# Altium schematic symbol library transistor_fet.SchLib: 102 symbols
Pins are listed as number, name and electrical type; pins without a type are passive.

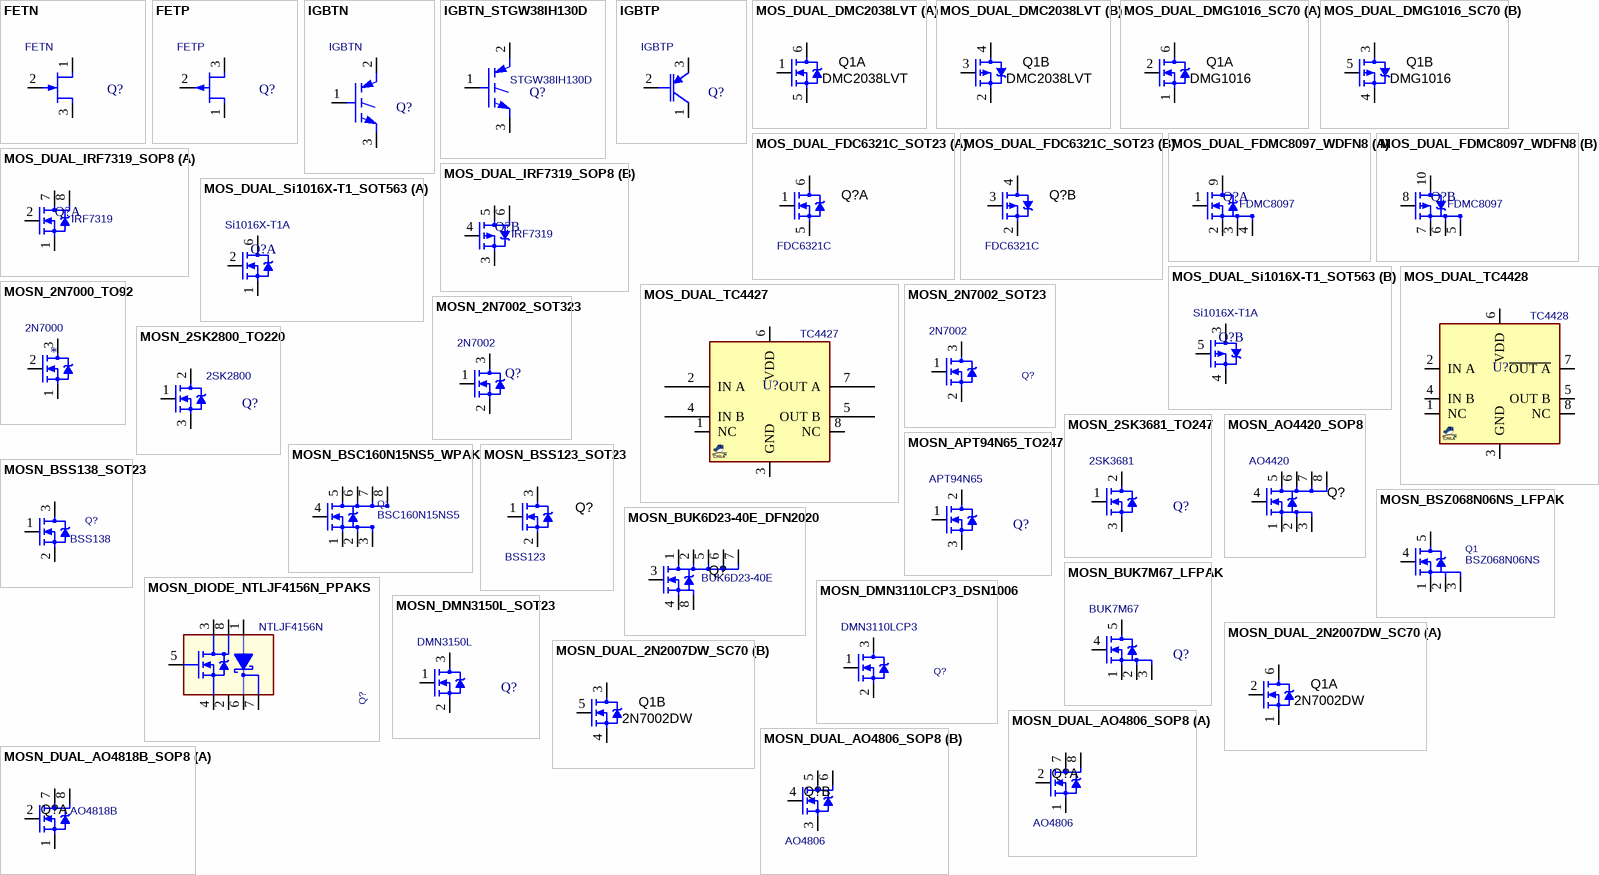
[diagram p0: symbols FETN to MOSN_DUAL_AO4818B_SOP8]

## FETN
designator Q?
N-Channel JFET; ASSEMBLY: ASSEMBLY; VALUE: FETN
footprint TO18_3 (TO18, TO-206AA, TO52, TO46, DIA: 5.5mm)
pins: 1 D, 2 G, 3 S

## FETP
designator Q?
P-Channel JFET; ASSEMBLY: ASSEMBLY; VALUE: FETP
footprint TO18_3 (TO18, TO-206AA, TO52, TO46, DIA: 5.5mm)
pins: 1 D, 2 G, 3 S

## IGBTN
designator Q?
IGBT, N-Ch; ASSEMBLY: ASSEMBLY; VALUE: IGBTN
footprint TO220_3 (TO-220 3 LEAD, TO-262, pitch: 2.54mm  10x4.5mm)
footprint TO220_3B (TO-220 3LEAD, pitch: 2.54mm  10x15mm)
pins: 1 G, 2 C, 3 E

## IGBTN_STGW38IH130D
designator Q?, comment STGW38IH130D
IGBT, N-Ch; DESC: Insulated Gate Bipolar Transistor; MANF: ST; ASSEMBLY: ASSEMBLY; MANF_P#: STGW38IH130D; VALUE: STGW38IH130D
footprint TO247_3 (TO247, TO-247, TO-3P pitch: 5.5mm 16x5mm)
simulation model IRGPC40U (Spice Subcircuit)
pins: 1 G, 2 C, 3 E

## IGBTP
designator Q?
IGBT, P-Ch; ASSEMBLY: ASSEMBLY; VALUE: IGBTP
footprint TO220_3 (TO-220 3 LEAD, TO-262, pitch: 2.54mm  10x4.5mm)
pins: 1 C, 2 G, 3 E

## MOS_DUAL_DMC2038LVT
designator Q1, comment DMC2038LVT
MOSFET Dual Enh N+P 20V 500mW TSOT23-6 SMD; PARAM: 3A, 20V, 500mW, 74 mOhm, -4.5V; MANF_P#: DMC2038LVT-7; MANF: Diodes Inc; ASSEMBLY: ASSEMBLY; Value: DMC2038LVT
footprint SOT23_6 (SOT-23-6, MICRO6, SOT-26, SOT457, SuperSOT6, TSOP-6, HMC313, MO-178AB, MO-193AA, TSOT)
part A pins: 1 G1, 5 S1, 6 D1
part B pins: 2 S2, 3 G2, 4 D2

## MOS_DUAL_DMG1016_SC70
designator Q1, comment DMG1016
MOSFET Dual Enh N+P 20V 330mW SOT363 SMD; PARAM: 20V, 330 mW; MANF_P#: DMG1016UDW-7; PARAM2: 450 mOhm @ 600mA, 4.5V; MANF: Diodes Inc; ASSEMBLY: ASSEMBLY; Value: DMG1016
footprint SOT363_6 (SOT-363, SC-70_6, BFS483, SC-88, MO-203AB, DSO65_6_200X130)
part A pins: 1 S1, 2 G1, 6 D1
part B pins: 3 D2, 4 S2, 5 G2

## MOS_DUAL_FDC6321C_SOT23
designator Q?, comment FDC6321C
MOSFET Dual N+P; MANF: FAIRCHILD; ASSEMBLY: ASSEMBLY; MANF_P#: FDC6321C; VALUE: FDC6321C
footprint SOT23_6 (SOT-23-6, MICRO6, SOT-26, SOT457, SuperSOT6, TSOP-6, HMC313, MO-178AB, MO-193AA, TSOT)
part A pins: 1 G, 5 S, 6 D
part B pins: 2 S2, 3 G2, 4 D2

## MOS_DUAL_FDMC8097_WDFN8
designator Q?, comment FDMC8097
MOSFET, Power, N+P, 2.4A/-0.9A, 150Vdss; MANF_P#: FDMC8097AC; PARAM2: 150Vdss, 0.155/1.2Ohm; PARAM: 2.4A/-0.9A, -55~150oC; MANF: ON/FAIRCHILD; ASSEMBLY: ASSEMBLY; PRICE: 3$; VALUE: FDMC8097
footprint WDFN3030_8D (Power33, WDFN8 3x3, 0.65P 3.0x3.0x0.8mm)
part A pins: 1 G1, 2 S1, 3 S1, 4 S1, 9 D1
part B pins: 5 S2, 6 S2, 7 S2, 8 G2, 10 D2

## MOS_DUAL_IRF7319_SOP8
designator Q?, comment IRF7319
MOSFET, Power, HEXFET, N+P, 5A, 30Vdss, 0.03Rds; MANF_P#: IRF7319PBF, IRF7319TRPBF; PARAM: 5A, -55~150oC; MANF: Infineon/IR; ASSEMBLY: ASSEMBLY; PARAM2: 30Vdss, 0.03Rds; PRICE: 0.9$; VALUE: IRF7319
footprint SO_8
part A pins: 1 S1, 2 G1, 7 D1, 8 D1
part B pins: 3 S2, 4 G2, 5 D2, 6 D2

## MOS_DUAL_Si1016X-T1_SOT563
designator Q?, comment Si1016X-T1A
Complementary N- and P-Channel 20 V (D-S) MOSFET; ASSEMBLY: ASSEMBLY; MANF_P#: Si1016X-T1A; VALUE: Si1016X-T1A
footprint SOT563_6 (SOT-563, 6 LEAD, Body 1.2x1.6mm, Pitch 0.50mm, DSO50_6_160X120)
part A pins: 1 S, 2 G, 6 D
part B pins: 3 D2, 4 S2, 5 G2

## MOS_DUAL_TC4427
designator U?, comment TC4427
power Mosfet Driver, Dual, High-Speed, 1.5A; ASSEMBLY: ASSEMBLY; MANF_P#: TC4427; VALUE: TC4427
footprint SO_8
pins: 1 NC, 2 IN A, 3 GND, 4 IN B, 5 OUT B, 6 VDD, 7 OUT A, 8 NC

## MOS_DUAL_TC4428
designator U?, comment TC4428
power Mosfet Driver, Dual, High-Speed, 1.5A; ASSEMBLY: ASSEMBLY; MANF_P#: TC4428; VALUE: TC4428
footprint SO_8
pins: 1 NC, 2 IN A, 3 GND, 4 IN B, 5 OUT B, 6 VDD, 7 ~{OUT A}, 8 NC

## MOSN_2N7000_TO92
designator *, comment 2N7000
MOSFET, N-CH, 60V, 0.2A, 5OhmRDS; PARAM2: 60VDS, 0.8~3VGSth; PARAM: 0.2A, 5OhmRDS, 60pF, -55~150oC; ASSEMBLY: ASSEMBLY; MANF_P#: 2N7000; PRICE: 400t@PAYA; VALUE: 2N7000
footprint TO92_3 (TO-92)
pins: 1 S, 2 G, 3 D

## MOSN_2N7002_SOT23
designator Q?, comment 2N7002
MOSFET, N-CH, 60V, 0.3A; MANF: NXP; ASSEMBLY: ASSEMBLY; MANF_P#: 2N7002; PARAM2: 60v; PARAM: 0.3A; PRICE: 0.3t@Javan; VALUE: 2N7002
footprint SOT23_3 (SOT-23, Micro3, MO-178, TO-236AB, MO-193C, SuperSOT3, SC-59, DSO190_3_300X150)
pins: 1 GATE, 2 SOURCE, 3 DRAIN

## MOSN_2N7002_SOT323
designator Q?, comment 2N7002
MOSFET, N-CH, 60V, 0.3A, SOT323; MANF_P#: 2N7002BKW,115; PARAM: 60V, 310mA, 275mW; PARAM2: 1.6 Ohm @ 500mA, 10V; MANF: NXP Semiconductors; ASSEMBLY: ASSEMBLY; VALUE: 2N7002
footprint SOT323_3 (SOT323, SC-70/SC70-3L, MO-203(JEDEC))
pins: 1 GATE, 2 SOURCE, 3 DRAIN

## MOSN_2SK2800_TO220
designator Q?, comment 2SK2800
MOSFET, N-CH, 60V, 40A, 15mRDS, 1500pF; PARAM2: 60VDS, 1.5~2.5VGSth; PARAM: 40A, 15mRDS, 1500pF, -55~150oC; MANF: RENESAS; ASSEMBLY: ASSEMBLY; MANF_P#: 2SK2800; PRICE: 2000toman@PAYA; VALUE: 2SK2800
footprint TO220_3 (TO-220 3 LEAD, TO-262, pitch: 2.54mm  10x4.5mm)
pins: 1 G, 2 D, 3 S

## MOSN_2SK3681_TO247
designator Q?, comment 2SK3681
MOSFET N-CH, 600V, 43A, 120mRDS; PARAM2: 600V, 680pFCOSS; ASSEMBLY: ASSEMBLY; MANF_P#: 2SK3681; PARAM: 43A, 120mRDS; PRICE: 20t@PAYA; VALUE: 2SK3681
footprint TO247_3 (TO247, TO-247, TO-3P pitch: 5.5mm 16x5mm, TO-218)
pins: 1 G, 2 D, 3 S

## MOSN_AO4420_SOP8
designator Q?, comment AO4420
MOSFET, N-CH, 30V, 13.7A, SOIC-8; MANF: Alpha & Omega Semiconductor Inc; ASSEMBLY: ASSEMBLY; MANF_P#: AO4420; PARAM2: 30V; PARAM: 13.7A; VALUE: AO4420
footprint SO_8 (SOP-8, 5x3.9mm body 1.27mm pitch, SOT96-1, M08A, S8, SOIC8, VO8, MS-012AA(JEDEC), R-8, 8S2, VOG8)
pins: 1 1,2,3, 2 S, 3 S, 4 G, 5 5,6,7,8, 6 D, 7 D, 8 D

## MOSN_APT94N65_TO247
designator Q?, comment APT94N65
MOSFET N-CH, 650V, 94A, 300mRDS; PARAM2: 650V, 5200pF; PARAM: 94A, 300mRDS, -55~150°C; MANF: MICROSEMI; ASSEMBLY: ASSEMBLY; MANF_P#: APT94N65; PRICE: 70t@PAYA; VALUE: APT94N65
footprint TO247_3 (TO247, TO-247, TO-3P pitch: 5.5mm 16x5mm, TO-218)
pins: 1 G, 2 D, 3 S

## MOSN_BSC160N15NS5_WPAK
designator Q1, comment BSC160N15NS5
MOSFET, N-Ch, 150V, 56A, 16mRDS; PARAM2: 150VDS, 2~4VGSth; PARAM: 56A, 16mRDS, -55~150°C; MANF: Infineon; ASSEMBLY: ASSEMBLY; MANF_P#: BSC160N15NS5; PRICE: 1.1$; VALUE: BSC160N15NS5
footprint WPAK_8S (WPAK, POWERPAK SO-8 1.27mm pitch Single)
pins: 1 S1, 2 S2, 3 S3, 4 G, 5 D, 6 D, 7 D, 8 D

## MOSN_BSS123_SOT23
designator Q?, comment BSS123
MOSFET SMD N-CH 100V 170mA SOT23-3; PARAM: 100V; 170mA; MANF_P#: BSS123-7-F; MANF: Diodes Inc; ASSEMBLY: ASSEMBLY; VALUE: BSS123
footprint SOT23_3 (SOT-23, Micro3, MO-178, TO-236AB, MO-193C, SuperSOT3, SC-59, 1.9mm pitch 3X1.5mm body)
pins: 1 G, 2 S, 3 D

## MOSN_BSS138_SOT23
designator Q?, comment BSS138
MOSFET Nchan 50V 200mA; MANF_P#: BSS138-7-F; MANF: Diodes Inc.; DESC: MOSFET Nchan 50V 200mA; PRICE: 0.18; ASSEMBLY: ASSEMBLY; VALUE: BSS138
footprint SOT23_3 (SOT-23, Micro3, MO-178, TO-236AB, MO-193C, SuperSOT3, SC-59, DSO190_3_300X150)
pins: 1 GATE, 2 SOURCE, 3 DRAIN

## MOSN_BSZ068N06NS_LFPAK
designator Q1, comment BSZ068N06NS
MOSFET, N-Ch, 60V, 40A, 6.8mRDS; PARAM2: 60VDS, 2~4VGSth; PARAM: 40A, 6.8mRDS, -55~150°C; MANF: Infineon; ASSEMBLY: ASSEMBLY; MANF_P#: BSZ068N06NS; PRICE: 1.1$; VALUE: BSZ068N06NS
footprint PG_TSDSON_8 (LFPAK33-5, PG-TSDSON-8, WDFN8, 3.3X3.3X0.9mm, 0.65mm pitch)
pins: 1 S1, 2 S2, 3 S3, 4 G, 5 D

## MOSN_BUK6D23-40E_DFN2020
designator Q?, comment BUK6D23-40E
MOSFET N-CH, 40V, 19A, 23mRDSON, PPAKSC70; PARAM2: 40VDS, 1.3VGSth; PARAM: 19A, 23mRDSON, -55~175°C; MANF: Nexperia; ASSEMBLY: ASSEMBLY; MANF_P#: BUK6D23-40E; PRICE: 0.5$; VALUE: BUK6D23-40E
footprint PPAKSC70_6S (PowerPAK SC-70-6 SINGLE, MicroFET 2X2, DFN2020MD-6, SOT1220, Pitch: 0.65mm 2x2x1.1mm with 2 Thermal pad)
pins: 1 D, 2 D, 3 G, 4 S, 5 D, 6 D, 7 D, 8 S

## MOSN_BUK7M67_LFPAK
designator Q?, comment BUK7M67
MOSFET, N-CH, 0.05RDS, 14A, 60VDS, 2~4VGSth; MANF_P#: BUK7M67-60EX; PARAM2: 60VDS, 2.4~4VGSth; PARAM: 0.15RDS, 14A, -55~175oC; MANF: Nexperia; ASSEMBLY: ASSEMBLY; PRICE: 0.4$; VALUE: BUK7M67
footprint LFPAK33_4 (LFPAK33, 2.6X3.3X0.9mm, 0.65mm pitch)
pins: 1 S, 2 S, 3 S, 4 G, 5 D

## MOSN_DIODE_NTLJF4156N_PPAKS
designator Q?, comment NTLJF4156N
TRAN NMOS PWR 4.6A 30V DIODE SCHOTTKY 2.0A WDFN6; MANF_P#: NTLJF4156NT1G; MANF: ON SEMICONDUCTOR; ASSEMBLY: ASSEMBLY; VALUE: NTLJF4156N
footprint PPAKSC70_6D (PowerPAK SC-70-6, DFN, DRV, PWSON, WDFN6 Pitch: 0.65mm 2x2x1.1mm with 2 Thermal pad)
pins: 1 A, 2 NC, 3 DRAIN1, 4 SOURCE, 5 GATE, 6 K1, 7 K2, 8 DRAIN2

## MOSN_DMN3110LCP3_DSN1006
designator Q?, comment DMN3110LCP3
MOSFET, N-CH, 30V, 3A, 80mRDSON; PARAM2: 30VDS, 0.65~1.1VGSth; PARAM: 3A, 80mRDSON, -55~150°C; MANF: DIODES; ASSEMBLY: ASSEMBLY; MANF_P#: DMN3110LCP3; PRICE: 0.4$; VALUE: DMN3110LCP3
footprint DSN1006_3 (X2-DSN1006-3, 1X0.6X0.35mm)
pins: 1 GATE, 2 SOURCE, 3 DRAIN

## MOSN_DMN3150L_SOT23
designator Q?, comment DMN3150L
MOSFET N-Channel, 3.8A, 30v, 54mOhm; PARAM2: 30vDS; PARAM: 3.8A, 54mOhm; MANF: Diodes; ASSEMBLY: ASSEMBLY; MANF_P#: DMN3150L; VALUE: DMN3150L
footprint SOT23_3 (SOT-23, Micro3, MO-178, TO-236AB, MO-193C, SuperSOT3, SC-59, 1.9mm pitch 3X1.5mm body)
pins: 1 G, 2 S, 3 D

## MOSN_DUAL_2N2007DW_SC70
designator Q1, comment 2N7002DW
MOSFET Dual Enh N-Ch 60V 115mA SOT363 SMD; PARAM: 60V, 115mA, 200 mW; MANF: Fairchild Semiconductor; MANF_P#: 2N7002DW; ASSEMBLY: ASSEMBLY; Value: 2N7002DW
footprint SOT363_6 (SOT-363, SC-70_6, BFS483, SC-88, MO-203AB, DSO65_6_200X130)
part A pins: 1 S2, 2 G2, 6 D2
part B pins: 3 D1, 4 S1, 5 G1

## MOSN_DUAL_AO4806_SOP8
designator Q?, comment AO4806
MOSFET N-Channel DUAL, 20V 9.4A SOIC-8 SMD; PARAM: 2W; 20V; 9.4A; 14 mOhm; MANF: Alpha & Omega Semiconductor Inc; MANF_P#: AO4806; ASSEMBLY: ASSEMBLY; VALUE: AO4806
footprint SO_8 (SOP-8, 5x3.9mm body 1.27mm pitch, SOT96-1, M08A, S8, SOIC8, VO8, MS-012AA(JEDEC), R-8, 8S2, VOG8)
part A pins: 1 S, 2 G, 7 D, 8 D
part B pins: 3 S, 4 G, 5 D, 6 D

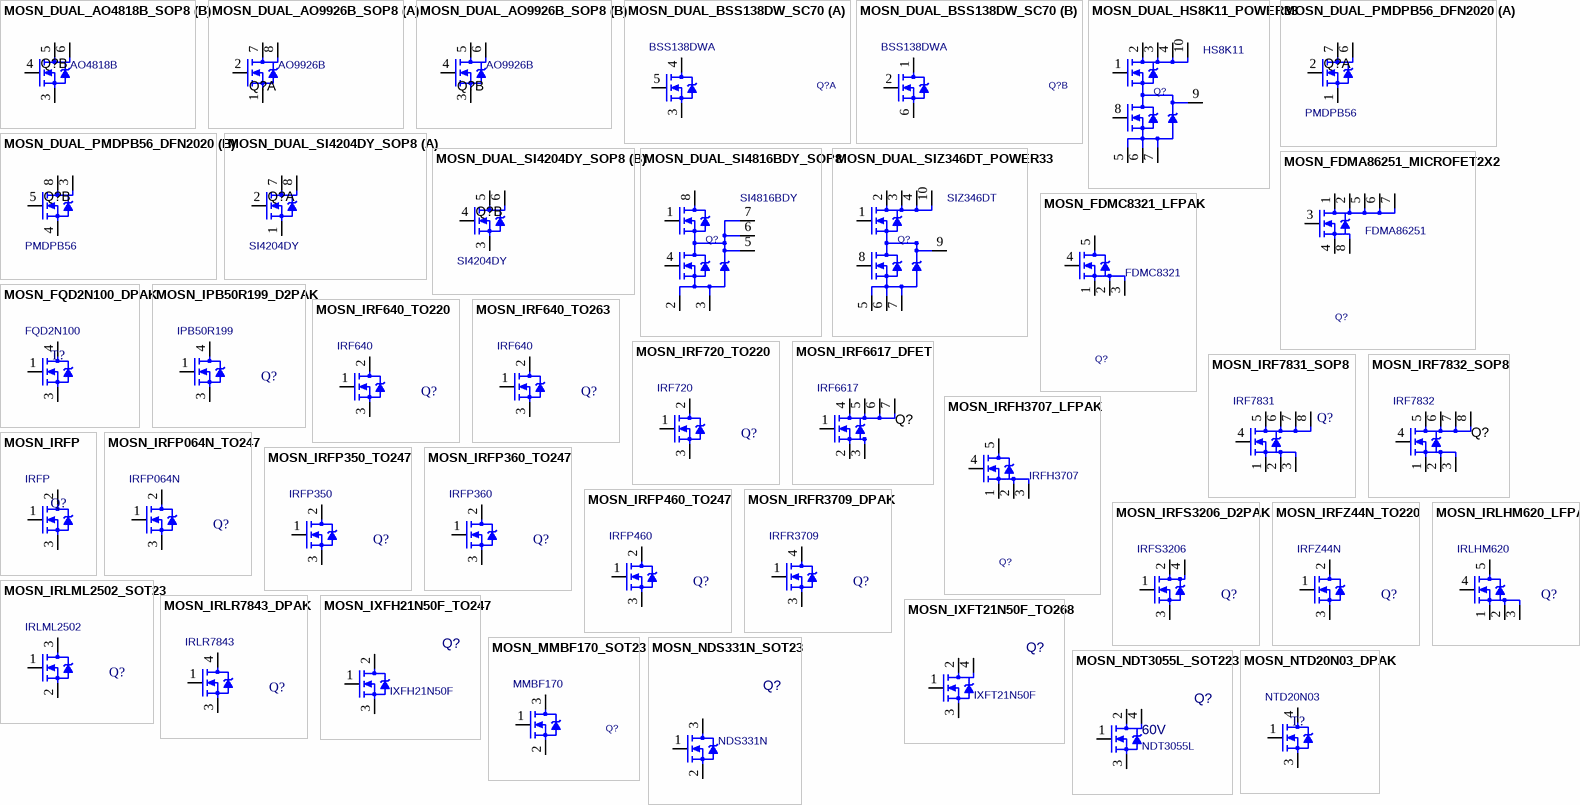
[diagram p1: symbols MOSN_DUAL_AO4818B_SOP8 to MOSN_NTD20N03_DPAK]

## MOSN_DUAL_AO4818B_SOP8
designator Q?, comment AO4818B
MOSFET N-Channel DUAL, 30V 8.5A SOIC-8 SMD; PARAM: 2W; 30V; 8.5A; 16 mOhm; MANF: Alpha & Omega Semiconductor Inc; ASSEMBLY: ASSEMBLY; MANF_P#: AO4818B; VALUE: AO4818B
footprint SO_8 (SOP-8, 5x3.9mm body 1.27mm pitch, SOT96-1, M08A, S8, SOIC8, VO8, MS-012AA(JEDEC), R-8, 8S2, VOG8)
part A pins: 1 S, 2 G, 7 D, 8 D
part B pins: 3 S, 4 G, 5 D, 6 D

## MOSN_DUAL_AO9926B_SOP8
designator Q?, comment AO9926B
MOSFET SMD Dual-Channel 20V 7.6A SOIC-8; PARAM: 2W; 20V; 7.6A; 34 mOhm @ 2.5V; MANF: Alpha & Omega Semiconductor Inc; MANF_P#: AO9926B; ASSEMBLY: ASSEMBLY; VALUE: AO9926B
footprint SO_8 (SOP-8, 5x3.9mm body 1.27mm pitch, SOT96-1, M08A, S8, SOIC8, VO8, MS-012AA(JEDEC), R-8, 8S2, VOG8)
part A pins: 1 S, 2 G, 7 D, 8 D
part B pins: 3 S, 4 G, 5 D, 6 D

## MOSN_DUAL_BSS138DW_SC70
designator Q?, comment BSS138DWA
MANF_P#: BSS138DW-7-F; MANF: Diodes Inc; ASSEMBLY: ASSEMBLY; VALUE: BSS138DWA
footprint SOT363_6 (SOT-363, SC-70_6, BFS483, SC-88, MO-203AB, DSO65_6_200X130)
part A pins: 3 DRAIN1, 4 SOURCE1, 5 GATE1
part B pins: 1 SOURCE2, 2 GATE2, 6 DRAIN2

## MOSN_DUAL_HS8K11_POWER33
designator Q?, comment HS8K11
MOSFET DL N-CH 30V 7/11A; MANF_P#: HS8K11TB; PARAM: 18 mOhm @ 7A; PARAM2: 30V, 2W; MANF: ROHM; ASSEMBLY: ASSEMBLY; PRICE: 0.6$; VALUE: HS8K11
footprint HSML3030_8D (Power Pair33, HSML3030, 0.65P 3.0x3.0x0.8mm)
pins: 1 G1, 2 D1, 3 D1, 4 D1, 5 S2, 6 S2, 7 S2, 8 G2, 9 D2/S1, 10 D1

## MOSN_DUAL_PMDPB56_DFN2020
designator Q?, comment PMDPB56
MOSFET N-Channel DUAL, 30V, 3A; MANF_P#: PMDPB56XNEA; PARAM2: 30V, -55~150°C; PARAM: 0.5W, 3A, 72mOhm; MANF: Nexperia; ASSEMBLY: ASSEMBLY; PRICE: 0.5$; VALUE: PMDPB56
footprint PPAKSC70_6D (PowerPAK SC-70-6, DFN2020D-6, DRV, PWSON, WDFN6 Pitch: 0.65mm 2x2x1.1mm with 2 Thermal pad)
part A pins: 1 S, 2 G, 6 D, 7 D
part B pins: 3 D, 4 S, 5 G, 8 D

## MOSN_DUAL_SI4204DY_SOP8
designator Q?, comment SI4204DY
MOSFET N-Channel DUAL, 20V 20A SOP-8; MANF_P#: SI4204DY-T1-GE3; PARAM: 3W; 20V; 20A; 4 mOhm; MANF: Vishay; ASSEMBLY: ASSEMBLY; PRICE: 2$; VALUE: SI4204DY
footprint SO_8 (SOP-8, 5x3.9mm body 1.27mm pitch, SOT96-1, M08A, S8, SOIC8, VO8, MS-012AA(JEDEC), R-8, 8S2, VOG8)
part A pins: 1 S, 2 G, 7 D, 8 D
part B pins: 3 S, 4 G, 5 D, 6 D

## MOSN_DUAL_SI4816BDY_SOP8
designator Q?, comment SI4816BDY
MOSFET DL N-CH 30V 6.8A 8-SOIC; MANF_P#: SI4816BDY-T1-GE3; PARAM: 18.5 mOhm @ 6.8A, 10V; PARAM2: 30V, 5.8A, 1W; MANF: Vishay/Siliconix; ASSEMBLY: ASSEMBLY; VALUE: SI4816BDY
footprint SO_8 (SOP-8, 5x3.9mm body 1.27mm pitch, SOT96-1, M08A, S8, SOIC8, VO8, MS-012AA(JEDEC), R-8, 8S2, VOG8)
pins: 1 G1, 2 A/S2_1, 3 A/S2_2, 4 G2, 5 D2/S1_1, 6 D2/S1_2, 7 D2/S1_3, 8 D1

## MOSN_DUAL_SIZ346DT_POWER33
designator Q?, comment SIZ346DT
MOSFET DL N-CH 30V 17/30A; MANF_P#: SIZ346DT-T1-GE3; PARAM: 28/11 mOhm @ 17/30A; PARAM2: 30V, 2W; MANF: Vishay/Siliconix; ASSEMBLY: ASSEMBLY; PRICE: 0.7$; VALUE: SIZ346DT
footprint HSML3030_8D (Power Pair33, HSML3030, 0.65P 3.0x3.0x0.8mm)
pins: 1 G1, 2 D1, 3 D1, 4 D1, 5 S2, 6 S2, 7 S2, 8 G2, 9 D2/S1, 10 D1

## MOSN_FDMA86251_MICROFET2X2
designator Q?, comment FDMA86251
MOSFET, N-Ch, 150V, 2.4A, 175mRDS; PARAM2: 150VDS, 4nC Qg, 2~4VGSth; PARAM: 2.4A, 175mRDS, 24pF COss, -55~150oC; MANF: ON/FAIRCHILD; ASSEMBLY: ASSEMBLY; MANF_P#: FDMA86251; PRICE: 1$; VALUE: FDMA86251
footprint UFET2020_6D1 (MicroFET-6 2x2, 2x2mm, 0.65mm pitch, Dual thermal Pad)
pins: 1 D1, 2 D2, 3 G, 4 S1, 5 D3, 6 D4, 7 D5, 8 S2

## MOSN_FDMC8321_LFPAK
designator Q?, comment FDMC8321
MOSFET, N-Ch, 40V, 49A, 2.5mRDS; MANF_P#: FDMC8321L; PARAM2: 40VDS, 21nC Qg, 1~3VGSth; PARAM: 49A, 2.5mRDS, 1000pF COss, -55~150oC; MANF: ON/FAIRCHILD; ASSEMBLY: ASSEMBLY; PRICE: 1.7$; VALUE: FDMC8321
footprint LFPAK33_4 (LFPAK33-5, WDFN8, 3.3X3.3X0.9mm, 0.65mm pitch)
pins: 1 S1, 2 S2, 3 S3, 4 G, 5 D

## MOSN_FQD2N100_DPAK
designator T?, comment FQD2N100
MOSFET, N-CH, 1000V, 1.6A, 9RDS, 3~5VGSth; MANF_P#: FQD2N100TM; PARAM2: 1000VDS, 3~5VGSth; PARAM: 1.6A, 9mRDS, Cin400pF, -55~150°C; MANF: ON; ASSEMBLY: ASSEMBLY; PRICE: -; VALUE: FQD2N100
footprint DPAK_3 (D-PAK (TO-252), 3-Pads, Body 6.2x6.7mm)
pins: 1 G, 3 S, 4 D

## MOSN_IPB50R199_D2PAK
designator Q?, comment IPB50R199
MOSFET, N-CH, 550V, 17A, 200mRDS, 34nC; MANF_P#: IPB50R199CP; PARAM2: 550VDS; PARAM: 17A, 200mRDS, 34nC, -55~150oC; MANF: Infineon; ASSEMBLY: ASSEMBLY; PRICE: -; VALUE: IPB50R199
footprint D2PAK_2 (D2PAK-3, FMG500_3_S1000)
pins: 1 G, 3 S, 4 D

## MOSN_IRF640_TO220
designator Q?, comment IRF640
MOSFET, N-CH, 0.15RDS, 18A, 300VDS, 2~4VGSth; PARAM2: 200VDS, 2~4VGSth; PARAM: 0.15RDS, 18A, -55~175oC; MANF: VISHAY, ON; ASSEMBLY: ASSEMBLY; MANF_P#: IRF640; PRICE: 0.9$, 1500toman@PAYA; VALUE: IRF640
footprint TO220_3 (TO-220 3 LEAD, TO-262, pitch: 2.54mm  10x4.5mm)
pins: 1 G, 2 D, 3 S

## MOSN_IRF640_TO263
designator Q?, comment IRF640
MOSFET, N-CH, 0.15RDS, 18A, 300VDS, 2~4VGSth; MANF_P#: IRF640S; PARAM2: 200VDS, 2~4VGSth; PARAM: 0.15RDS, 18A, -55~175oC; MANF: VISHAY, ON; ASSEMBLY: ASSEMBLY; PRICE: 0.9$, 1500toman@PAYA; VALUE: IRF640
footprint D2PAK_3 (D2-PAK, 4-Pads, Body 7.6x8.6mm)
pins: 1 G, 2 D, 3 S

## MOSN_IRF720_TO220
designator Q?, comment IRF720
MOSFET, N-CH, 1.8RDS, 3.3A, 400VDS, 2~4VGSth; MANF: VISHAY, ON; ASSEMBLY: ASSEMBLY; MANF_P#: IRF720; PARAM2: 400VDS, 2~4VGSth; PARAM: 1.8RDS, 3.3A; VALUE: IRF720
footprint TO220_3 (TO-220 3 LEAD, TO-262, pitch: 2.54mm  10x4.5mm)
pins: 1 G, 2 D, 3 S

## MOSN_IRF6617_DFET
designator Q?, comment IRF6617
MOSFET, N-CH, 30V, 55A, 8mRDS, 1300pF; PARAM2: 30VDS, 1.3~2.3VGSth; PARAM: 55A, 8mRDS, 1300pF, -40~150oC; MANF: IRF; ASSEMBLY: ASSEMBLY; MANF_P#: IRF6617; PRICE: 1000t@PAYA; VALUE: IRF6617
footprint DFET_S (DirectFET, Small size can, ST, SC, 5x4x0.7mm)
pins: 1 G, 2 S, 3 S, 4 D, 5 5,6,7,8, 6 D, 7 D

## MOSN_IRF7831_SOP8
designator Q?, comment IRF7831
MOSFET, N-CH, 30V, 21A, 3.6mOhm, 6200pF, HEXFET; ASSEMBLY: ASSEMBLY; MANF_P#: IRF7831; PARAM2: 30V; PARAM: 21A, 3.6mOhm, 6200pF; VALUE: IRF7831
footprint SO_8 (SOP-8, 5x3.9mm body 1.27mm pitch, SOT96-1, M08A, S8, SOIC8, VO8, MS-012AA(JEDEC), R-8, 8S2, VOG8)
pins: 1 S, 2 S, 3 S, 4 G, 5 D, 6 D, 7 D, 8 D

## MOSN_IRF7832_SOP8
designator Q?, comment IRF7832
MOSFET, N-CH, 30V, 20A, 4mOhm, 4300pF; PARAM: 20A, 4mOhm, 4300pF, -55~155oC; MANF: IRF; ASSEMBLY: ASSEMBLY; MANF_P#: IRF7832; PARAM2: 30V; PRICE: 1500t@PAYA; VALUE: IRF7832
footprint SO_8 (SOP-8, 5x3.9mm body 1.27mm pitch, SOT96-1, M08A, S8, SOIC8, VO8, MS-012AA(JEDEC), R-8, 8S2, VOG8)
pins: 1 1,2,3, 2 S, 3 S, 4 G, 5 5,6,7,8, 6 D, 7 D, 8 D

## MOSN_IRFH3707_LFPAK
designator Q?, comment IRFH3707
MOSFET, N-Ch, 30V, 12A, 12.4mRDS; MANF_P#: IRFH3707TRPBF; PARAM2: 30VDS, 1.3~2.3VGSth; PARAM: 12A, 12.4mRDS, 755pF, -55~150oC; MANF: IRF; ASSEMBLY: ASSEMBLY; PRICE: 0.5$; VALUE: IRFH3707
footprint LFPAK33_4 (LFPAK33-5, WDFN8, 3.3X3.3X0.9mm, 0.65mm pitch)
pins: 1 S1, 2 S2, 3 S3, 4 G, 5 D

## MOSN_IRFP
designator Q?, comment IRFP
ASSEMBLY: ASSEMBLY; MANF_P#: IRFP; VALUE: IRFP
footprint TO247_3 (TO247, TO-247, TO-3P pitch: 5.5mm 16x5mm, TO-218)
pins: 1 G, 2 D, 3 S

## MOSN_IRFP064N_TO247
designator Q?, comment IRFP064N
HEXFET Power MOSFET; ASSEMBLY: ASSEMBLY; MANF_P#: IRFP064N; VALUE: IRFP064N
footprint TO247_3 (TO247, TO-247, TO-3P pitch: 5.5mm 16x5mm, TO-218)
pins: 1 G, 2 D, 3 S

## MOSN_IRFP350_TO247
designator Q?, comment IRFP350
MOSFET N-CH, 400V, 16A, 300mRDS; PARAM2: 400V, 400pF; ASSEMBLY: ASSEMBLY; MANF_P#: IRFP350; PARAM: 16A, 300mRDS; PRICE: 14t@PAYA; VALUE: IRFP350
footprint TO247_3 (TO247, TO-247, TO-3P pitch: 5.5mm 16x5mm, TO-218)
pins: 1 G, 2 D, 3 S

## MOSN_IRFP360_TO247
designator Q?, comment IRFP360
MOSFET N-CH, 400V, 23A, 200mRDS; PARAM2: 400V, 1100pF; ASSEMBLY: ASSEMBLY; MANF_P#: IRFP360; PARAM: 23A, 200mRDS; PRICE: 22t@PAYA; VALUE: IRFP360
footprint TO247_3 (TO247, TO-247, TO-3P pitch: 5.5mm 16x5mm, TO-218)
pins: 1 G, 2 D, 3 S

## MOSN_IRFP460_TO247
designator Q?, comment IRFP460
MOSFET N-CH, 500V, 20A, 870mRDS; PARAM2: 500V, 870pF; PARAM: 20A, 270mRDS; ASSEMBLY: ASSEMBLY; MANF_P#: IRFP460; PRICE: 20t@PAYA; VALUE: IRFP460
footprint TO247_3 (TO247, TO-247, TO-3P pitch: 5.5mm 16x5mm, TO-218)
pins: 1 G, 2 D, 3 S

## MOSN_IRFR3709_DPAK
designator Q?, comment IRFR3709
MOSFET, N-CH, 30V, 86A, 6.5mRDS, 2300pF; DESC: HEXFET Power MOSFET; MANF_P#: IRFR3709Z; PARAM2: 30VDS, 1.3~2.2VGSth; PARAM: 86A, 6.5mRDS, 2300pF, -55~175oC; ASSEMBLY: ASSEMBLY; PRICE: 1500t@PAYA; VALUE: IRFR3709
footprint DPAK_3 (D-PAK (TO-252), 3-Pads, Body 6.2x6.7mm)
pins: 1 G, 3 S, 4 D

## MOSN_IRFS3206_D2PAK
designator Q?, comment IRFS3206
HEXFET Power MOSFET; ASSEMBLY: ASSEMBLY; MANF_P#: IRFS3206; VALUE: IRFS3206
footprint D2PAK_3 (D2-PAK, 4-Pads, Body 7.6x8.6mm)
pins: 1 G, 2 D, 3 S, 4 D

## MOSN_IRFZ44N_TO220
designator Q?, comment IRFZ44N
HEXFET Power MOSFET; ASSEMBLY: ASSEMBLY; MANF_P#: IRFZ44N; VALUE: IRFZ44N
footprint TO220_3 (TO-220 3 LEAD, TO-262, pitch: 2.54mm  10x4.5mm)
pins: 1 G, 2 D, 3 S

## MOSN_IRLHM620_LFPAK
designator Q?, comment IRLHM620
MOSFET, N-CH, 0.002RDS, 10A, 20VDS, 2~4VGSth; PARAM2: 20VDS, 2.4~4VGSth; PARAM: 0.002RDS, 40A, -55~175oC; MANF: I&R; ASSEMBLY: ASSEMBLY; MANF_P#: IRLHM620; PRICE: 0.4$; VALUE: IRLHM620
footprint LFPAK33_4 (LFPAK33, 2.6X3.3X0.9mm, 0.65mm pitch)
pins: 1 S, 2 S, 3 S, 4 G, 5 D

## MOSN_IRLML2502_SOT23
designator Q?, comment IRLML2502
N-Channel Enhancement Mode MOSFET; ASSEMBLY: ASSEMBLY; MANF_P#: IRLML2502; VALUE: IRLML2502
footprint SOT23_3 (SOT-23, Micro3, MO-178, TO-236AB, MO-193C, SuperSOT3, SC-59, 1.9mm pitch 3X1.5mm body)
pins: 1 G, 2 S, 3 D

## MOSN_IRLR7843_DPAK
designator Q?, comment IRLR7843
HEXFET Power MOSFET; ASSEMBLY: ASSEMBLY; MANF_P#: IRLR7843; VALUE: IRLR7843
footprint DPAK_3 (D-PAK (TO-252), 3-Pads, Body 6.2x6.7mm)
pins: 1 G, 3 S, 4 D

## MOSN_IXFH21N50F_TO247
designator Q?, comment IXFH21N50F
MOSFET N-CH, HiPerRF, 500V, 21A, 250mOhm, 250ns, 300W; DESC: DESCRIPTION; PARAM2: 300W, 250ns; MANF: IXYS; PRICE: 0.228; PARAM: 500V, 21A, 250mOhm; ASSEMBLY: ASSEMBLY; MANF_P#: IXFH21N50F; VALUE: IXFH21N50F
footprint TO247_3 (TO247, TO-247, TO-3P pitch: 5.5mm 16x5mm)
pins: 1 GATE, 2 DRAIN, 3 SOURCE

## MOSN_IXFT21N50F_TO268
designator Q?, comment IXFT21N50F
MOSFET N-CH, HiPerRF, 500V, 21A, 250mOhm, 250ns, 300W; DESC: DESCRIPTION; PARAM2: 300W, 250ns; MANF: IXYS; PRICE: 0.228; PARAM: 500V, 21A, 250mOhm; ASSEMBLY: ASSEMBLY; MANF_P#: IXFT21N50F; VALUE: IXFT21N50F
footprint D3PAK_3 (D3-PAK, 4-Pads, TO-268AA)
pins: 1 GATE, 2 DRAIN, 3 SOURCE, 4 DT

## MOSN_MMBF170_SOT23
designator Q?, comment MMBF170
MOSFET, N-CH, 60V, 0.5A,; PARAM2: 60VDS, 0.8~3VGSth; PARAM: 0.5A, -55~150oC; MANF: DIODES; ASSEMBLY: ASSEMBLY; MANF_P#: MMBF170; VALUE: MMBF170
footprint SOT23_3 (SOT-23, Micro3, MO-178, TO-236AB, MO-193C, SuperSOT3, SC-59, DSO190_3_300X150)
pins: 1 GATE, 2 SOURCE, 3 DRAIN

## MOSN_NDS331N_SOT23
designator Q?, comment NDS331N
MOSFET N-CH 20V 1.3A 3-SSOT; DESC: DESCRIPTION; PARAM2: 460MW; MANF: Fairchild; PRICE: 0.072; PARAM: 20V; ASSEMBLY: ASSEMBLY; MANF_P#: NDS331N; VALUE: NDS331N
footprint SOT23_3 (Footprint not found)
pins: 1 GATE, 2 SOURCE, 3 DRAIN

## MOSN_NDT3055L_SOT223
designator Q?, comment PARAM: 60V  (hidden comment: NDT3055L)
MOSFET N-CH 60V 1.3A; DESC: DESCRIPTION; PARAM2: 1.3W; MANF: Fairchild; PRICE: 0.228; ASSEMBLY: ASSEMBLY; MANF_P#: NDT3055L; VALUE: NDT3055L
footprint SOT223_4 (SOT223, 4-Leads, Body 6.5x3.5mm, Pitch 2.30mm)
pins: 1 GATE, 2 DRAIN, 3 SOURCE, 4 DT

## MOSN_NTD20N03_DPAK
designator T?, comment NTD20N03
MOSFET, N-CH, 30V, 20A, 27mRDS, 1~2VGSth; MANF_P#: NTD20N03L27T4G; PARAM2: 30VDS, 1~2VGSth; PARAM: 20A, 27mRDS, Cin1000pF, -55~150oC; MANF: ON; ASSEMBLY: ASSEMBLY; PRICE: 0.9$; VALUE: NTD20N03
footprint DPAK_3 (D-PAK (TO-252), 3-Pads, Body 6.2x6.7mm)
pins: 1 G, 3 S, 4 D

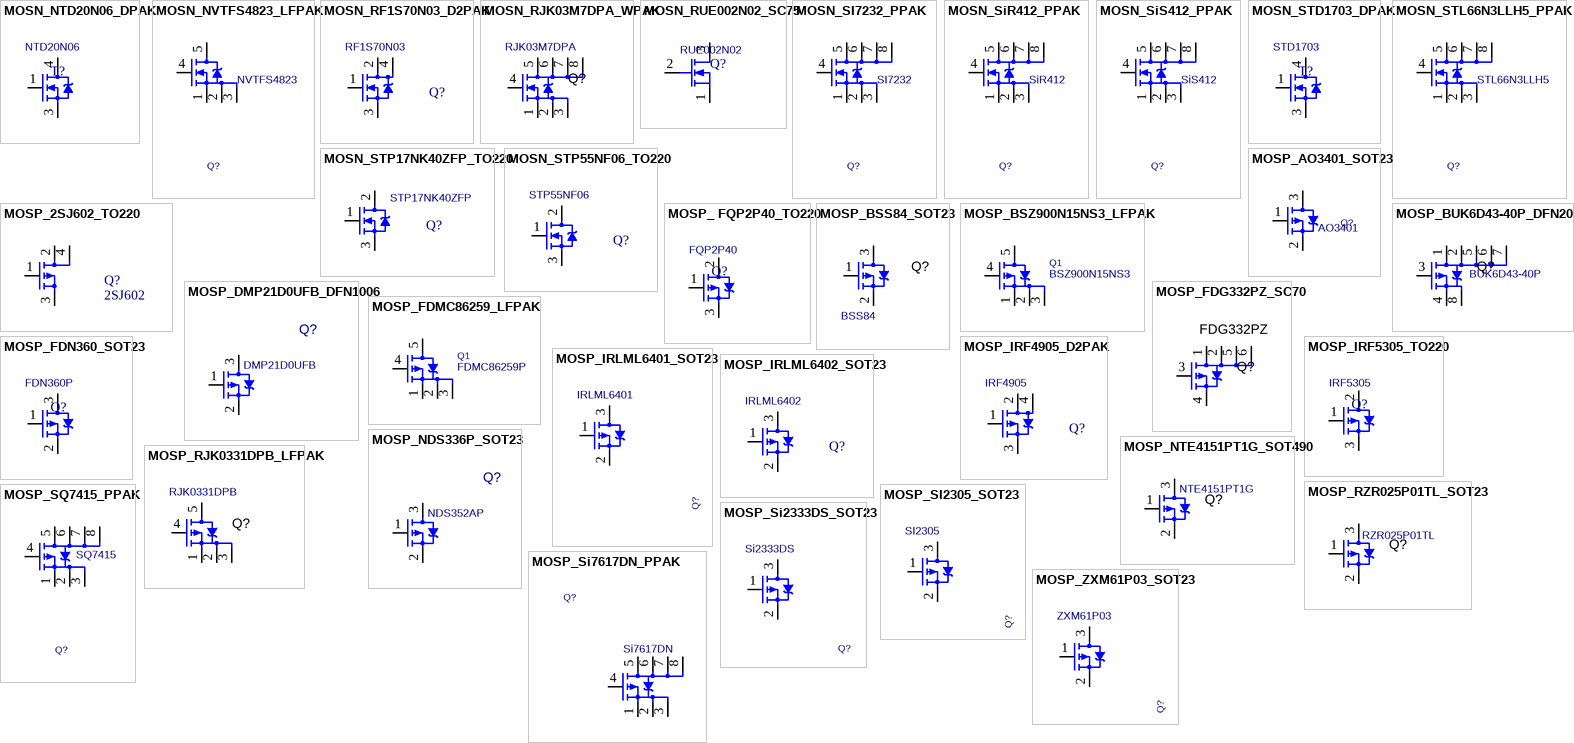
[diagram p2: symbols MOSN_NTD20N06_DPAK to MOSP_ZXM61P03_SOT23]

## MOSN_NTD20N06_DPAK
designator T?, comment NTD20N06
MOSFET, N-CH, 60V, 20A, 39mRDS, 1~2VGSth; MANF_P#: NTD20N06L; PARAM2: 60VDS, 1~2VGSth; PARAM: 20A, 39mRDS, Cin700pF, -55~150oC; MANF: ON; ASSEMBLY: ASSEMBLY; PRICE: 0.9$; VALUE: NTD20N06
footprint DPAK_3 (D-PAK (TO-252), 3-Pads, Body 6.2x6.7mm)
pins: 1 G, 3 S, 4 D

## MOSN_NVTFS4823_LFPAK
designator Q?, comment NVTFS4823
MOSFET, N-Ch, 30V, 30A, 10.5mRDS; MANF_P#: NVTFS4823NWFTAG; PARAM2: 30VDS, 1.5~2.5VGSth; PARAM: 30A, 10.5mRDS, 750pF, -55~175oC; MANF: ON; ASSEMBLY: ASSEMBLY; PRICE: 0.8$; VALUE: NVTFS4823
footprint LFPAK33_4 (LFPAK33-5, WDFN8, 3.3X3.3X0.9mm, 0.65mm pitch)
pins: 1 S1, 2 S2, 3 S3, 4 G, 5 D

## MOSN_RF1S70N03_D2PAK
designator Q?, comment RF1S70N03
MOSFET, N-CH, 30V, 70A, 10mRDS, 3300pF; MANF_P#: RF1S70N03SM9; PARAM2: 30VDS, 2~4VGSth; PARAM: 70A, 10mRDS, 3300pF, -55~175oC; MANF: HARRIS; ASSEMBLY: ASSEMBLY; PRICE: 1500t@PAYA; VALUE: RF1S70N03
footprint D2PAK_3 (D2-PAK, 4-Pads, Body 7.6x8.6mm)
pins: 1 G, 2 D, 3 S, 4 D

## MOSN_RJK03M7DPA_WPAK
designator Q?, comment RJK03M7DPA
MOSFET N-Channel Power Switching 30V 30A WPAK SMD; PARAM: 30V; 30A; MANF: Renesas; ASSEMBLY: ASSEMBLY; MANF_P#: RJK03M7DPA; VALUE: RJK03M7DPA
footprint WPAK_8S (WPAK, POWERPAK SO-8 1.27mm pitch Single)
pins: 1 S, 2 S, 3 S, 4 G, 5 D, 6 D, 7 D, 8 D

## MOSN_RUE002N02_SC75
designator Q?, comment RUE002N02
MOSFET, N-CH; ASSEMBLY: ASSEMBLY; MANF_P#: RUE002N02; VALUE: RUE002N02
footprint SOT113_3 (SOT-113, BAT64, SC-75, SOT-416, SOT523, DSO90_3_140X80)
pins: 1 S, 2 G, 3 D

## MOSN_SI7232_PPAK
designator Q?, comment SI7232
MOSFET N-Ch, 20V, 25A, 16mRDS, PowerPAK 1212-8; MANF_P#: SI7232DN-T1-GE3; PARAM2: 20VDS, 0.4~1VGSth; PARAM: 25A, 16mRDS, 21nC, -55~150oC; MANF: VISHAY; ASSEMBLY: ASSEMBLY; PRICE: 0.6$; VALUE: SI7232
footprint PPAK1212_8S (PowerPAK 1212-8(vishay) pitch: 0.65mm 3.3x3.3x1.1mm)
pins: 1 S1, 2 S2, 3 S3, 4 G, 5 D, 6 D, 7 D, 8 D

## MOSN_SiR412_PPAK
designator Q?, comment SiR412
MOSFET N-Ch, 25V, 20A, 12mRDS, PowerPAK 1212-8; MANF_P#: SiR412DP; PARAM2: 25VDS, 1.2~2.5VGSth; PARAM: 20A, 12mRDS, 600pF, -55~150oC; MANF: VISHAY; ASSEMBLY: ASSEMBLY; PRICE: 0.9$; VALUE: SiR412
footprint PPAK1212_8S (PowerPAK 1212-8(vishay) pitch: 0.65mm 3.3x3.3x1.1mm)
pins: 1 S1, 2 S2, 3 S3, 4 G, 5 D, 6 D, 7 D, 8 D

## MOSN_SiS412_PPAK
designator Q?, comment SiS412
MOSFET N-Ch, 30V, 12A, 30mRDS, PowerPAK 1212-8; MANF_P#: SIS412DN-T1-GE3; PARAM2: 30VDS, 1~2.5VGSth; PARAM: 12A, 30mRDS, 435pF, -55~150oC; MANF: VISHAY; ASSEMBLY: ASSEMBLY; PRICE: 0.6$; VALUE: SiS412
footprint PPAK1212_8S (PowerPAK 1212-8(vishay) pitch: 0.65mm 3.3x3.3x1.1mm)
pins: 1 S1, 2 S2, 3 S3, 4 G, 5 D, 6 D, 7 D, 8 D

## MOSN_STD1703_DPAK
designator T?, comment STD1703
MOSFET, N-CH, 30V, 17A, 38mRDS, 1VGSth; MANF_P#: STD1703L; PARAM2: 30VDS, 1VGSth; PARAM: 17A, 38mRDS, Cin330pF, -65~175oC; MANF: ST; ASSEMBLY: ASSEMBLY; PRICE: 1500t@PAYA; VALUE: STD1703
footprint DPAK_3 (D-PAK (TO-252), 3-Pads, Body 6.2x6.7mm)
pins: 1 G, 3 S, 4 D

## MOSN_STL66N3LLH5_PPAK
designator Q?, comment STL66N3LLH5
MOSFET N-Ch, 30V, 80A, 4.5mRDS, PowerPAK 1212-8; PARAM2: 30VDS, 1~3VGSth; PARAM: 80A, 4.5mRDS, 1500pF, -55~175oC; MANF: ST; ASSEMBLY: ASSEMBLY; MANF_P#: STL66N3LLH5; PRICE: 1$; VALUE: STL66N3LLH5
footprint LFPAK33_4 (LFPAK33-5, WDFN8, 3.3X3.3X0.9mm, 0.65mm pitch)
pins: 1 S1, 2 S2, 3 S3, 4 G, 5 D, 6 D, 7 D, 8 D

## MOSN_STP17NK40ZFP_TO220
designator Q?, comment STP17NK40ZFP
MOSFET, N-CH, 400V, 15A, 230mRDS, 270pF; PARAM2: 400VDS, 3~4.5VGSth; PARAM: 15A, 270mRDS, 270pF, -55~150oC; MANF: ST; ASSEMBLY: ASSEMBLY; MANF_P#: STP17NK40ZFP; PRICE: 7t@PAYA; VALUE: STP17NK40ZFP
footprint TO220_3 (TO-220 3 LEAD, TO-262, pitch: 2.54mm  10x4.5mm)
pins: 1 G, 2 D, 3 S

## MOSN_STP55NF06_TO220
designator Q?, comment STP55NF06
MOSFET, N-CH, 60V, 50A, 15mRDS, 2~4VGSth; PARAM2: 60VDS, 2~4VGSth; PARAM: 0.015RDS, 50A, 1300pF, -55~175oC; MANF: ST; ASSEMBLY: ASSEMBLY; MANF_P#: STP55NF06; PRICE: 1500toman@PAYA; VALUE: STP55NF06
footprint TO220_3 (TO-220 3 LEAD, TO-262, pitch: 2.54mm  10x4.5mm)
pins: 1 G, 2 D, 3 S

## MOSP_2SJ602_TO220
designator Q?, comment 2SJ602
P-Channel MOSFET; Value: 2SJ602; ASSEMBLY: ASSEMBLY; MANF_P#: 2SJ602
footprint TO220_3 (TO-220 3 LEAD, TO-262, pitch: 2.54mm  10x4.5mm)
simulation model PMOS (MOSFET-P)
pins: 1 G, 2 D, 3 S, 4 D

## MOSP_ FQP2P40_TO220
designator Q?, comment FQP2P40
MOSFET P-CHANNEL, 400V, -2A, 6.5Ohm, Vth-4.0; MANF_P#: FQP2P40-F080; PARAM2: -400V; PARAM: -2A, -55~150°C; MANF: ON/FAIRCHILD; ASSEMBLY: ASSEMBLY; PRICE: 1$; VALUE: FQP2P40
footprint TO220_3 (TO-220 3 LEAD, TO-262, pitch: 2.54mm  10x4.5mm)
pins: 1 G, 2 D, 3 S

## MOSP_AO3401_SOT23
designator Q?, comment AO3401
MOSFET P-CH AO3401 SMD SOT-23 3P; PARAM: 4.2A/30V; MANF: ALPHA & OMEGA; ASSEMBLY: ASSEMBLY; MANF_P#: AO3401; VALUE: AO3401
footprint SOT23_3 (SOT-23, Micro3, MO-178, TO-236AB, MO-193C, SuperSOT3, SC-59, DSO190_3_300X150)
pins: 1 G, 2 S, 3 D

## MOSP_BSS84_SOT23
designator Q?, comment BSS84
MOSFET SMD P-CH 50V 130mA SOT23-3; PARAM: 50V; 130mA, 360mW; PARAM2: 10 Ohm @ 100mA, 5V; MANF: Fairchild Semiconductor; MANF_P#: BSS84; ASSEMBLY: ASSEMBLY; VALUE: BSS84
footprint SOT23_3 (SOT-23, Micro3, MO-178, TO-236AB, MO-193C, SuperSOT3, SC-59, DSO190_3_300X150)
pins: 1 G, 2 S, 3 D

## MOSP_BSZ900N15NS3_LFPAK
designator Q1, comment BSZ900N15NS3
MOSFET, N-Ch, 150V, 13A, 90mRDS; PARAM2: 150VDS, 2~4VGSth; PARAM: 13A, 90mRDS, -55~150°C; MANF: Infineon; ASSEMBLY: ASSEMBLY; MANF_P#: BSZ900N15NS3; PRICE: 1.1$; VALUE: BSZ900N15NS3
footprint PG_TSDSON_8 (LFPAK33-5, PG-TSDSON-8, WDFN8, 3.3X3.3X0.9mm, 0.65mm pitch)
pins: 1 S1, 2 S2, 3 S3, 4 G, 5 D

## MOSP_BUK6D43-40P_DFN2020
designator Q?, comment BUK6D43-40P
MOSFET N-CH, 40V, 14A, 43mRDSON, PPAKSC70; MANF_P#: BUK6D43-40PX; PARAM2: 40VDS, 2.7VGSth; PARAM: 14A, 43mRDSON, -55~175°C; MANF: Nexperia; ASSEMBLY: ASSEMBLY; PRICE: 0.5$; VALUE: BUK6D43-40P
footprint PPAKSC70_6S (PowerPAK SC-70-6 SINGLE, MicroFET 2X2, DFN2020MD-6, SOT1220, Pitch: 0.65mm 2x2x1.1mm with 2 Thermal pad)
pins: 1 D, 2 D, 3 G, 4 S, 5 D, 6 D, 7 D, 8 S

## MOSP_DMP21D0UFB_DFN1006
designator Q?, comment DMP21D0UFB
MOSFET P-CH 20V 0.7A SSOT3; DESC: DESCRIPTION; DIST#: MOUSER; PARAM: 0.7A, 700mRDSON, -55~150°C; MANF_P#: DMP21D0UFB-7B; PARAM2: 20V, 0.5W; MANF: Diodes; PRICE: 0.3$; ASSEMBLY: ASSEMBLY; VALUE: DMP21D0UFB
footprint DSN1006_3 (X2-DSN1006-3, -DFN1006, 1X0.6X0.35mm)
pins: 1 GATE, 2 DRAIN, 3 SOURCE

## MOSP_FDG332PZ_SC70
designator Q?, comment FDG332PZ
MOSFET SMD P-CH 20V 2.6A SC70-6; PARAM2: 95 mOhm @ 2.6A, 4.5V; PARAM: 20V; 2.6A; 480mW; MANF: Fairchild Semiconductor; MANF_P#: FDG332PZ; ASSEMBLY: ASSEMBLY; Value: FDG332PZ
footprint SOT363_6 (SOT-363, SC-70_6, BFS483, SC-88, MO-203AB, DSO65_6_200X130)
pins: 1 D, 2 D, 3 G, 4 S, 5 D, 6 D

## MOSP_FDMC86259_LFPAK
designator Q1, comment FDMC86259P
MOSFET, N-Ch, 150V, 13A, 107mRDS; PARAM2: 150VDS, 2~4VGSth; PARAM: 13A, 107mRDS, -55~150°C; MANF: ON; ASSEMBLY: ASSEMBLY; MANF_P#: FDMC86259P; PRICE: 1.1$; VALUE: FDMC86259P
footprint PG_TSDSON_8 (LFPAK33-5, PG-TSDSON-8, WDFN8, 3.3X3.3X0.9mm, 0.65mm pitch)
pins: 1 S1, 2 S2, 3 S3, 4 G, 5 D

## MOSP_FDN360_SOT23
designator Q?, comment FDN360P
P-Channel Mosfet, -2A, -30V; PARAM2: 0.1Ohm Ron, -1.9VGSth; MANF: FAIRCHILD/ON; ASSEMBLY: ASSEMBLY; MANF_P#: FDN360P; PARAM: -2A, -30V; PRICE: 0.3t@Javan; VALUE: FDN360P
footprint SOT23_3 (SOT-23, Micro3, MO-178, TO-236AB, MO-193C, SuperSOT3, SC-59, DSO190_3_300X150)
pins: 1 D, 2 S, 3 D

## MOSP_IRF4905_D2PAK
designator Q?, comment IRF4905
HEXFET Power MOSFET; ASSEMBLY: ASSEMBLY; MANF_P#: IRF4905; VALUE: IRF4905
footprint D2PAK_3 (D2-PAK, 4-Pads, Body 7.6x8.6mm)
pins: 1 G, 2 D, 3 S, 4 D

## MOSP_IRF5305_TO220
designator Q?, comment IRF5305
MOSFET P-CHANNEL, 55V, -31A, 6mO, Vth-4.0; ASSEMBLY: ASSEMBLY; MANF_P#: IRF5305; VALUE: IRF5305
footprint TO220_3 (TO-220 3 LEAD, TO-262, pitch: 2.54mm  10x4.5mm)
pins: 1 G, 2 D, 3 S

## MOSP_IRLML6401_SOT23
designator Q?, comment IRLML6401
TRAN PMOS PWR 12V 4.3A SOT23; MANF_P#: IRLML6401TRPBF; MANF: INTERNATIONAL RECTIFIER; ASSEMBLY: ASSEMBLY; VALUE: IRLML6401
footprint SOT23_3 (SOT-23, Micro3, MO-178, TO-236AB, MO-193C, SuperSOT3, SC-59, DSO190_3_300X150)
pins: 1 GATE, 2 SOURCE, 3 DRAIN

## MOSP_IRLML6402_SOT23
designator Q?, comment IRLML6402
20V P-Channel Enhancement Mode MOSFET; ASSEMBLY: ASSEMBLY; MANF_P#: IRLML6402; VALUE: IRLML6402
footprint SOT23_3 (SOT-23, Micro3, MO-178, TO-236AB, MO-193C, SuperSOT3, SC-59, DSO190_3_300X150)
pins: 1 G, 2 S, 3 D

## MOSP_NDS336P_SOT23
designator Q?, comment NDS352AP
MOSFET P-CH 20V 1.2A SSOT3; DESC: DESCRIPTION; DIST#: MOUSER; PARAM: 20V, 0.5W; MANF: Fairchild; PRICE: 0.126; ASSEMBLY: ASSEMBLY; MANF_P#: NDS352AP; VALUE: NDS352AP
footprint SOT23_3 (SOT-23, Micro3, MO-178, TO-236AB, MO-193C, SuperSOT3, SC-59, DSO190_3_300X150)
pins: 1 GATE, 2 DRAIN, 3 SOURCE

## MOSP_NTE4151PT1G_SOT490
designator Q?, comment NTE4151PT1G
MOSFET SMD P-CH 20V 0.76A 0.313W SOT523F; PARAM2: 360 mOhm @ 350mA, 4.5V; PARAM: 20V; 760mA; 313mW; MANF: ON Semiconductor; ASSEMBLY: ASSEMBLY; MANF_P#: NTE4151PT1G; VALUE: NTE4151PT1G
footprint SOT490_3 (SOT490 SC-89, 3 LEAD, Body 1.6x0.8mm, Pitch 1.0mm)
pins: 1 G, 2 S, 3 D

## MOSP_RJK0331DPB_LFPAK
designator Q?, comment RJK0331DPB
MOSFET, N-Ch, 30V, 40A, 3.4mRDS, LFPAK SMD; MANF_P#: RJK0331DPB-01#J0; PARAM2: 3.4 mOhm @ 20A, 10V; PARAM: 30V; 40A; 50W; MANF: Renesas; ASSEMBLY: ASSEMBLY; VALUE: RJK0331DPB
footprint LFPAK_4 (Renesas LFPAK, a variant of SOIC-8)
pins: 1 S, 2 S, 3 S, 4 G, 5 D

## MOSP_RZR025P01TL_SOT23
designator Q?, comment RZR025P01TL
MOSFET SMD P-CH 12V 2.5A 1W SOT23-3; PARAM2: 61mOhm @ 2.5A, 4.5V; PARAM: 12V; 2.5A; 1W; MANF: Rohm Semiconductor; MANF_P#: RZR025P01TL; ASSEMBLY: ASSEMBLY; VALUE: RZR025P01TL
footprint SOT23_3 (SOT-23, Micro3, MO-178, TO-236AB, MO-193C, SuperSOT3, SC-59, DSO190_3_300X150)
pins: 1 G, 2 S, 3 D

## MOSP_SI2305_SOT23
designator Q?, comment SI2305
TRAN PMOS PWR 4.1A 8V SOT23; MANF_P#: SI2305ADS-T1-GE3; MANF: VISHAY; ASSEMBLY: ASSEMBLY; VALUE: SI2305
footprint SOT23_3 (SOT-23, Micro3, MO-178, TO-236AB, MO-193C, SuperSOT3, SC-59, DSO190_3_300X150)
pins: 1 GATE, 2 SOURCE, 3 DRAIN

## MOSP_Si2333DS_SOT23
designator Q?, comment Si2333DS
TRAN PMOS PWR 4.1A 12V SOT-23; MANF_P#: SI2333DS-T1-E3; MANF: VISHAY INTERTECHNOLOGY; ASSEMBLY: ASSEMBLY; VALUE: Si2333DS
footprint SOT23_3 (SOT-23, Micro3, MO-178, TO-236AB, MO-193C, SuperSOT3, SC-59, DSO190_3_300X150)
pins: 1 GATE, 2 SOURCE, 3 DRAIN

## MOSP_Si7617DN_PPAK
designator Q?, comment Si7617DN
TRAN PMOS PWR 35A 30V PowerPAK 1212-8; MANF_P#: SI7617DN-T1-GE3; MANF: VISHAY INTERTECHNOLOGY; ASSEMBLY: ASSEMBLY; VALUE: Si7617DN
footprint PPAK1212_8S (PowerPAK 1212-8(vishay) pitch: 0.65mm 3.3x3.3x1.1mm)
pins: 1 S1, 2 S2, 3 S3, 4 G, 5 D, 6 D, 7 D, 8 D

## MOSP_SQ7415_PPAK
designator Q?, comment SQ7415
MOSFET P-Ch, 0.05RDS, -16A, -60VDS, -1.5~-2.5VGSth; MANF_P#: SQ7415AEN-T1_GE3; PARAM: 0.05RDS, -16A, -55~175oC; MANF: VISHAY; ASSEMBLY: ASSEMBLY; PARAM2: -60VDS, -1.5~-2.5VGSth; PRICE: 0.9$; VALUE: SQ7415
footprint PPAK1212_8S (PowerPAK 1212-8(vishay) pitch: 0.65mm 3.3x3.3x1.1mm)
pins: 1 S1, 2 S2, 3 S3, 4 G, 5 D, 6 D, 7 D, 8 D

## MOSP_ZXM61P03_SOT23
designator Q?, comment ZXM61P03
TRAN PMOS PWR 1.1A 30V SOT23; MANF_P#: ZXM61P03F; PARAM: 1.1A, 0.35Ohm, -55~150°C; MANF: ZETEX; ASSEMBLY: ASSEMBLY; PARAM2: 30V; PRICE: 0.5$; VALUE: ZXM61P03
footprint SOT23_3 (SOT-23, Micro3, MO-178, TO-236AB, MO-193C, SuperSOT3, SC-59, DSO190_3_300X150)
pins: 1 GATE, 2 SOURCE, 3 DRAIN